# Altium footprint library NRS4018T100MDGJ.PcbLib: 1 footprints
Each footprint in its own frame and in the unit in brackets; x right, y up, seen from the top. Pads: shape width x height; smd on the part's side, far side on the other; paste and mask are expansions set on the pad; w line width, h text height; cw(c..) or ccw(c..) is an arc to the next point about the centre after c.
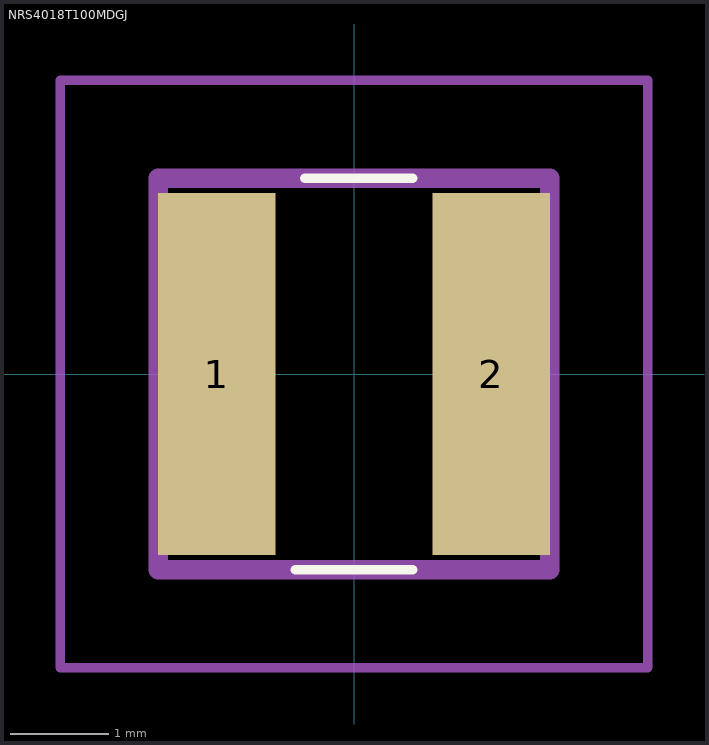
[diagram p0: the footprint, top view; thin cyan lines are the x and y axes]

## NRS4018T100MDGJ [mm]
pads (2):
  rect 1.2x3.7 smd: 1(-1.4,0) 2(1.4,0)
Top Overlay:
  lines w0.1: -0.6,-2 0.6,-2 ; -0.5,2 0.6,2
Mechanical 15:
  lines w0.2: -2,-2 2,-2 2,2 -2,2 -2,-2
Mechanical 20:
  lines w0.1: -3,-3 3,-3 3,3 -3,3 -3,-3
3D body "NRS4018T4R7MDGJ.stp": height 5.8, standoff -4.65, extent -10,-3.376 10,3.376